# EAGLE library part ICL8038 (library ic)
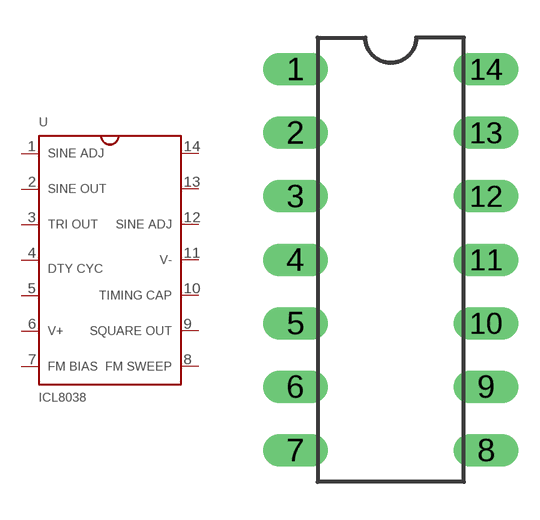
[diagram p17: symbol with the pads of DIL14; footprint DIL14]

Designator prefix -

## ICL8038  [DIL14]
1  SINE_ADJ
2  SINE_OUT
3  TRI_OUT
4  DUTY_1
5  DUTY_2
6  V+
7  FM_BIAS
8  FM_SWEEP
9  SQR_OUT
10  TIMING_CAP
11  V-
12  SINE_ADJ_2
13  NC_1
14  NC_2

## Footprint DIL14 (pad centres in mm)
Dual In Line Package
drill 0.8 long: 1 -3.81,7.62; 2 -3.81,5.08; 3 -3.81,2.54; 4 -3.81,0; 5 -3.81,-2.54; 6 -3.81,-5.08; 7 -3.81,-7.62; 8 3.81,-7.62; 9 3.81,-5.08; 10 3.81,-2.54; 11 3.81,0; 12 3.81,2.54; 13 3.81,5.08; 14 3.81,7.62